# Altium footprint library node.PcbLib: 75 footprints (part 2 of 5)
Each footprint in its own frame and in the unit in brackets; x right, y up, seen from the top. Pads: shape width x height; smd on the part's side, far side on the other; paste and mask are expansions set on the pad; w line width, h text height; cw(c..) or ccw(c..) is an arc to the next point about the centre after c.
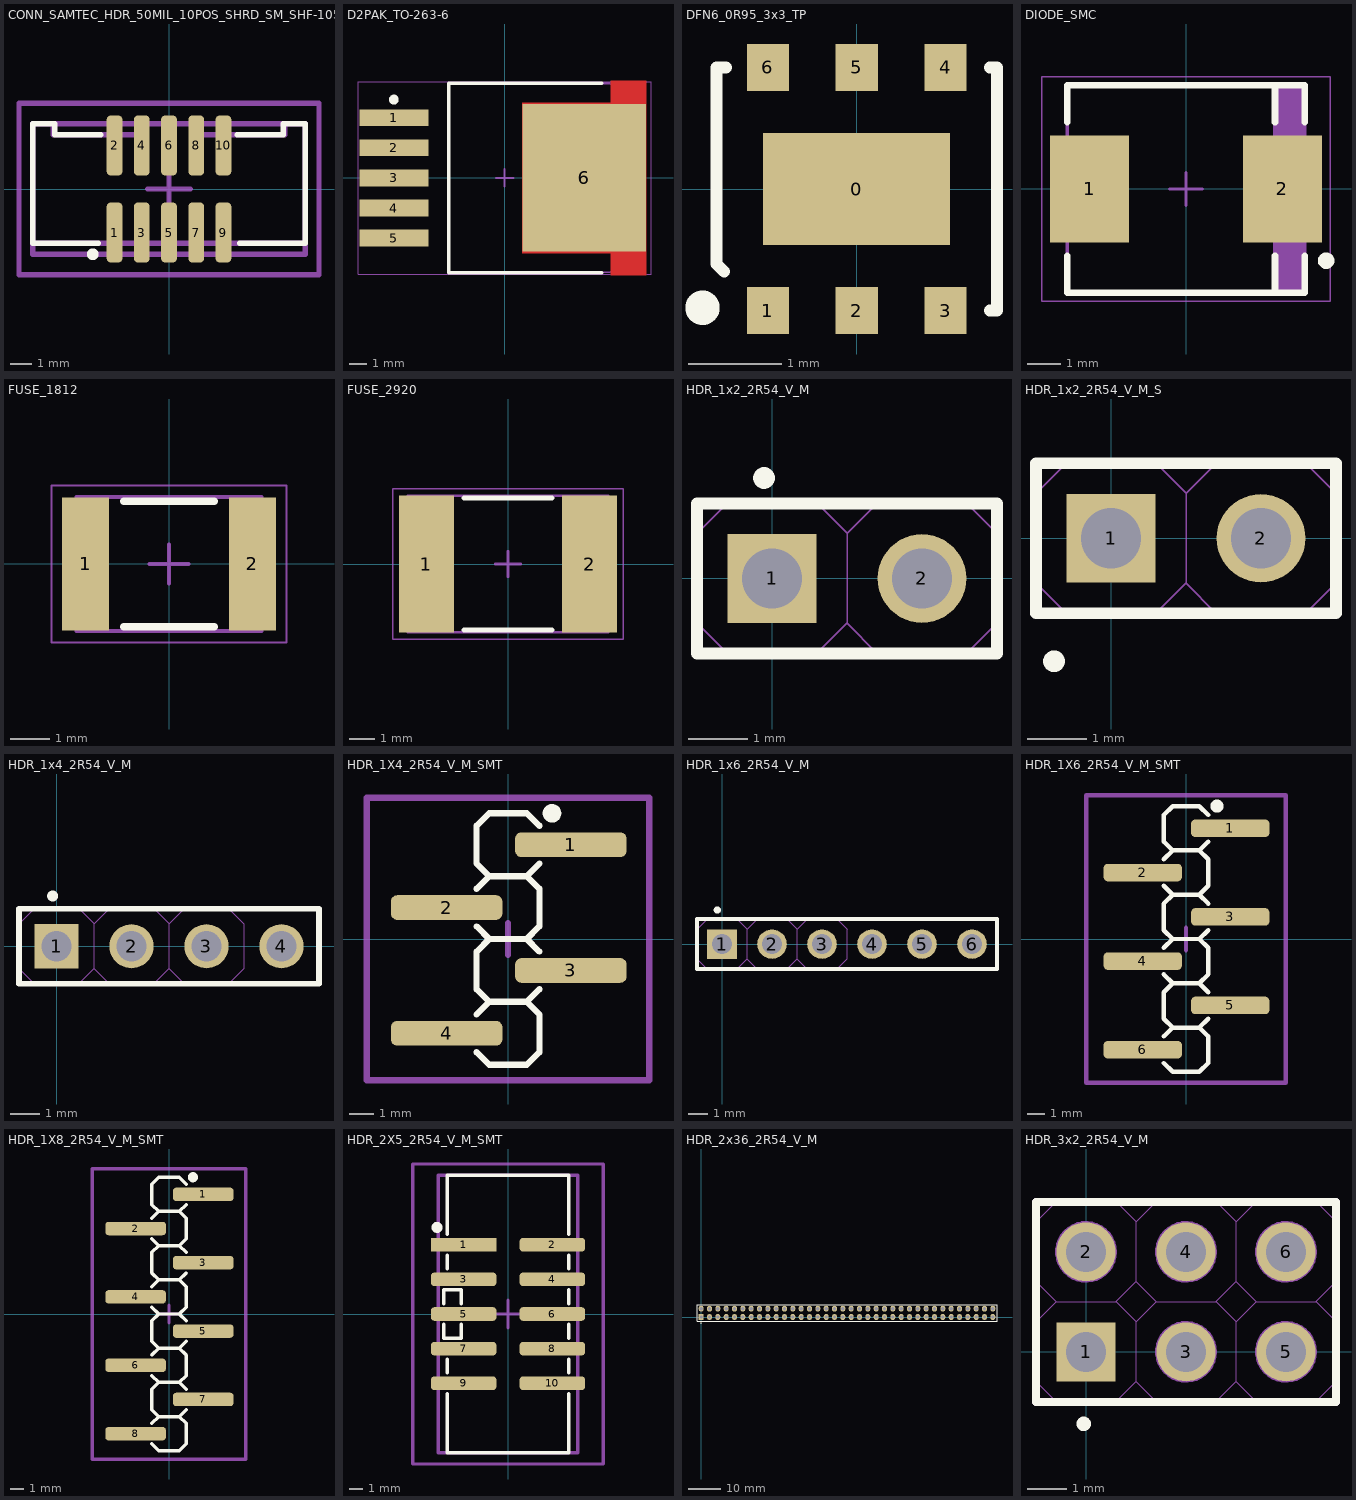
[diagram p1: the footprints below, top view; thin cyan lines are the x and y axes]

## CONN_SAMTEC_HDR_50MIL_10POS_SHRD_SM_SHF-105-01-L-D-SM [mil]
pads (10):
  rrect50% 29x110 smd mask+2: 1(-100,-80) 2(-100,80) 3(-50,-80) 4(-50,80) 5(0,-80) 6(0,80) 7(50,-80) 8(50,80) 9(100,-80) 10(100,80)
Top Overlay:
  circle w13.78: c-140,-120 r3.94
  lines w10: -130,-100 -250,-100 -250,120 -210,120 -210,100 -125,100 ; 125,100 210,100 210,120 250,120 250,-100 130,-100
Mechanical 1:
  lines w10: -250,-100 250,-100 250,120 213,120 213,100 50,100 50,120 -50,120 -50,100 -213,100 -213,120 -250,120 -250,-100
M13 (3D Body):
  lines w10: -249.99,-119.99 250.01,-119.99 250.01,120.01 -249.99,120.01 -249.99,-119.99
M15 (Courtyard):
  lines w10: -39.37,0 39.37,0 ; 0,-39.37 0,39.37 ; -275.59,-157.48 275.59,-157.48 275.59,157.48 -275.59,157.48 -275.59,-157.48
3D body "SHF-105-01-L-D-SM.stp": height 217.87, standoff 2.87, extent -249.99,-119.99 250.01,120.01

## D2PAK_TO-263-6 [mm] "DPAK, 5-Leads, Body 10.16x8.925mm, Pitch 1.7mm, IPC High Density"
height 4.83
pads (6):
  rect 3.9x0.95 smd: 1(-6.25,3.4) 2(-6.25,1.7) 3(-6.25,0) 4(-6.25,-1.7) 5(-6.25,-3.4)
  rect 7x8.33 smd: 6(4.5,0)
Top Layer:
  region: 8,-6.75
  region: 8,5.5 6,5.5 6,4.25 1,4.25 1,-4.25 6,-4.25 6,-5.5 8,-5.5
Top Overlay:
  circle w0.3: c-6.25,4.425 r0.125
  lines w0.2: 5.5,-5.35 -3.15,-5.35 -3.15,5.35 5.5,5.35
M13 (3D Body):
  lines w0.1: -3.15,-5.325 6.5,-5.325 6.5,5.325 -3.15,5.325 -3.15,-5.325
M15 (Courtyard):
  lines w0.05: -8.275,-5.425 8.275,-5.425 8.275,5.425 -8.275,5.425 -8.275,-5.425
  lines w0.1: -0.5,0 0.5,0 ; 0,-0.5 0,0.5
3D body "User Library-P2PAK_A.step": height 4.67, standoff 0.13, extent -7.765,-5.1 7.66,5.1

## DFN6_0R95_3x3_TP [mm] "500 mA low quiescent current and low noise voltage regulator"
height 1
pads (7):
  rect 2x1.2 smd: 0(0,0)
  rect 0.45x0.5 smd: 1(-0.95,-1.3) 2(0,-1.3) 3(0.95,-1.3) 4(0.95,1.3) 5(0,1.3) 6(-0.95,1.3)
Top Overlay:
  circle w0.25: c-1.649,-1.27 r0.059
  lines w0.127: -1.417,-0.883 -1.5,-0.8 -1.5,1.3 -1.397,1.3 ; 1.422,-1.3 1.5,-1.3 1.5,1.3 1.422,1.3
3D body: height 1, standoff 0.05, extent -1.5,-1.5 1.5,1.5

## DIODE_SMC [mm] "Molded Diode, 2-Leads, Body 7.10x6.20mm, IPC Medium Density"
height 2.65
pads (2):
  rect 2.4x3.25 smd: 1(-2.925,0) 2(2.925,0)
Top Overlay:
  circle w0.25: c4.25,-2.175 r0.125
  lines w0.2: -3.6,-2.025 -3.6,-3.15 3.6,-3.15 3.6,-2.025 ; -3.6,2.025 -3.6,3.15 3.6,3.15 3.6,2.025 ; 2.7,-3.15 2.7,-2.025 ; 2.7,2.025 2.7,3.15
M13 (3D Body):
  region: 3.6,3.15 2.632,3.15 2.632,-3.15 3.6,-3.15
  lines w0.1: -3.6,-3.15 3.6,-3.15 3.6,3.15 -3.6,3.15 -3.6,-3.15
M15 (Courtyard):
  lines w0.05: -4.375,-3.4 4.375,-3.4 4.375,3.4 -4.375,3.4 -4.375,-3.4
  lines w0.1: -0.5,0 0.5,0 ; 0,-0.5 0,0.5
3D body "User Library-DO-214AB SMC.step": height 2.31, standoff 0.01, extent -3.975,-2.95 3.975,2.95

## FUSE_1812 [mm] "Chip Resistor, 2-Leads, Body 4.55x3.24mm, IPC Medium Density"
height 0.75
pads (2):
  rect 1.2x3.4 smd: 1(-2.125,0) 2(2.125,0)
Top Overlay:
  lines w0.2: -1.15,-1.6 1.15,-1.6 ; -1.15,1.6 1.15,1.6
M13 (3D Body):
  lines w0.1: -2.365,-1.705 -2.365,1.705 2.365,1.705 2.365,-1.705 -2.365,-1.705
M15 (Courtyard):
  lines w0.05: -3,-2 -3,2 3,2 3,-2 -3,-2
  lines w0.1: -0.5,0 0.5,0 ; 0,-0.5 0,0.5
3D body "User Library-Fuse 1812.step": height 1.03, standoff 0, extent -2.365,-1.74 2.37,1.74

## FUSE_2920 [mm]
height 0.9
pads (2):
  rect 2.2x5.45 smd: 1(-3.25,0) 2(3.25,0)
Top Overlay:
  lines w0.2: -1.75,-2.625 1.75,-2.625 ; -1.75,2.625 1.75,2.625
M13 (3D Body):
  lines w0.1: -3.99,-2.72 -3.99,2.72 3.99,2.72 3.99,-2.72 -3.99,-2.72
M15 (Courtyard):
  lines w0.05: -4.6,-3 -4.6,3 4.6,3 4.6,-3 -4.6,-3
  lines w0.1: -0.5,0 0.5,0 ; 0,-0.5 0,0.5
3D body "User Library-0ZCF0200AF2C.step": height 0.85, standoff 0.05, extent -3.99,-2.72 3.99,2.72

## HDR_1x2_2R54_V_M [mm] "Male Header, Pitch 2.54mm, 4x1 Position, Mated Height 6mm, Tail Length 3mm"
height 6
pads (2):
  rect 1.5x1.5 hole 1.02: 1(0,0)
  round 1.5 hole 1.02: 2(2.54,0)
Top Overlay:
  circle w0.25: c-0.135,1.702 r0.059
  lines w0.2: -1.27,-1.27 -1.27,1.27 3.81,1.27 3.81,-1.27 -1.27,-1.27
M13 (3D Body):
  lines w0.025: 3.81,-0.762 3.302,-1.27 ; 3.81,0.762 3.302,1.27 1.778,1.27 1.27,0.762 ; -1.27,-0.762 -1.27,0.762 ; -1.27,-0.762 -1.27,0.762 ; -1.27,-0.762 -0.762,-1.27 ; -1.27,0.762 -0.762,1.27 0.762,1.27 1.27,0.762 ; -0.762,-1.27 0.762,-1.27 ; -0.762,-1.27 0.762,-1.27 ; 0.762,-1.27 1.27,-0.762 ; 1.27,-0.762 1.27,0.762 ; 1.27,-0.762 1.27,0.762 ; 1.27,-0.762 1.27,0.762 ; 1.27,-0.762 1.27,0.762 ; 1.27,-0.762 1.778,-1.27 ; 1.778,-1.27 3.302,-1.27 ; 1.778,-1.27 3.302,-1.27
3D body: height 2.54, standoff 0, extent -1.27,-1.27 1.27,1.27
3D body: height 9, standoff -10, extent -0.35,-0.349 0.347,0.349
3D body: height 2.54, standoff 0, extent 1.27,-1.27 3.81,1.27
3D body: height 9, standoff -10, extent 2.19,-0.349 2.887,0.349

## HDR_1x2_2R54_V_M_S [mm] "Male Header, Pitch 2.54mm, 4x1 Position, Mated Height 6mm, Tail Length 3mm"
height 6
pads (2):
  rect 1.5x1.5 hole 1.02: 1(0,0)
  round 1.5 hole 1.02: 2(2.54,0)
Top Overlay:
  circle w0.25: c-0.965,-2.083 r0.059
  lines w0.2: -1.27,-1.27 -1.27,1.27 3.81,1.27 3.81,-1.27 -1.27,-1.27
M13 (3D Body):
  lines w0.025: 3.81,-0.762 3.302,-1.27 ; 3.81,0.762 3.302,1.27 1.778,1.27 1.27,0.762 ; -1.27,-0.762 -1.27,0.762 ; -1.27,-0.762 -1.27,0.762 ; -1.27,-0.762 -0.762,-1.27 ; -1.27,0.762 -0.762,1.27 0.762,1.27 1.27,0.762 ; -0.762,-1.27 0.762,-1.27 ; -0.762,-1.27 0.762,-1.27 ; 0.762,-1.27 1.27,-0.762 ; 1.27,-0.762 1.27,0.762 ; 1.27,-0.762 1.27,0.762 ; 1.27,-0.762 1.27,0.762 ; 1.27,-0.762 1.27,0.762 ; 1.27,-0.762 1.778,-1.27 ; 1.778,-1.27 3.302,-1.27 ; 1.778,-1.27 3.302,-1.27
3D body: height 2.54, standoff 0, extent -1.27,-1.27 1.27,1.27
3D body: height 9, standoff -3, extent -0.35,-0.349 0.347,0.349
3D body: height 2.54, standoff 0, extent 1.27,-1.27 3.81,1.27
3D body: height 9, standoff -3, extent 2.19,-0.349 2.887,0.349

## HDR_1x4_2R54_V_M [mm] "Male Header, Pitch 2.54mm, 4x1 Position, Mated Height 6mm, Tail Length 3mm"
height 6
pads (4):
  rect 1.5x1.5 hole 1.02: 1(0,0)
  round 1.5 hole 1.02: 2(2.54,0) 3(5.08,0) 4(7.62,0)
Top Overlay:
  circle w0.25: c-0.135,1.702 r0.059
  lines w0.2: 8.865,1.27 -1.27,1.27 -1.27,-1.27 8.89,-1.27 8.89,1.27
M13 (3D Body):
  lines w0.025: -1.27,-0.762 -1.27,0.762 ; -1.27,-0.762 -1.27,0.762 ; -1.27,-0.762 -0.762,-1.27 ; -1.27,0.762 -0.762,1.27 0.762,1.27 1.27,0.762 ; -0.762,-1.27 0.762,-1.27 ; -0.762,-1.27 0.762,-1.27 ; 0.762,-1.27 1.27,-0.762 ; 1.27,-0.762 1.27,0.762 ; 1.27,-0.762 1.27,0.762 ; 1.27,-0.762 1.27,0.762 ; 1.27,-0.762 1.27,0.762 ; 1.27,-0.762 1.778,-1.27 ; 1.27,0.762 1.778,1.27 3.302,1.27 3.81,0.762 ; 1.778,-1.27 3.302,-1.27 ; 1.778,-1.27 3.302,-1.27 ; 3.302,-1.27 3.81,-0.762 ; 3.81,-0.762 3.81,0.762 ; 3.81,-0.762 3.81,0.762 ; 3.81,-0.762 3.81,0.762 ; 3.81,-0.762 3.81,0.762 ; 3.81,-0.762 4.318,-1.27 ; 3.81,0.762 4.318,1.27 5.842,1.27 6.35,0.762 ; 4.318,-1.27 5.842,-1.27 ; 4.318,-1.27 5.842,-1.27 ; 5.842,-1.27 6.35,-0.762 ; 6.35,-0.762 6.35,0.762 ; 6.35,-0.762 6.35,0.762
3D body: height 2.54, standoff 0, extent -1.27,-1.27 1.27,1.27
3D body: height 9, standoff -2.54, extent -0.35,-0.349 0.347,0.349
3D body: height 2.54, standoff 0, extent 1.27,-1.27 3.81,1.27
3D body: height 9, standoff -2.54, extent 2.19,-0.349 2.887,0.349
3D body: height 2.54, standoff 0, extent 3.81,-1.27 6.35,1.27
3D body: height 9, standoff -2.54, extent 4.73,-0.349 5.427,0.349
3D body: height 9, standoff -2.54, extent 7.27,-0.349 7.967,0.349
3D body: height 2.54, standoff 0, extent 6.35,-1.27 8.89,1.27

## HDR_1X4_2R54_V_M_SMT [mm]
pads (4):
  rrect50% 4.506x1 smd: 1(2.54,3.81) 2(-2.48,1.27) 3(2.54,-1.27) 4(-2.48,-3.81)
Top Overlay:
  circle w0.381: c1.778,5.08 r0.185
  lines w0.254: -1.27,-4.572 -0.762,-5.08 0.762,-5.08 1.27,-4.572 1.27,-3.048 0.762,-2.54 ; -1.27,-3.048 -0.762,-2.54 ; -1.27,0.508 -0.762,0 ; -1.27,2.032 -0.762,2.54 ; 1.27,-2.032 0.762,-2.54 ; 1.27,-0.508 0.762,0 ; 1.27,3.048 0.762,2.54 ; 1.27,4.572 0.762,5.08 -0.762,5.08 -1.27,4.572 -1.27,3.048 -0.762,2.54 ; -0.762,-2.54 -1.27,-2.032 -1.27,-0.508 -0.762,0 ; -0.762,-2.54 0.762,-2.54 ; -0.762,0 0.762,0 ; -0.762,2.54 0.762,2.54 ; 0.762,0 1.27,0.508 1.27,2.032 0.762,2.54
M15 (Courtyard):
  lines w0.254: -0.635,0 0.635,0 ; 0,-0.635 0,0.635 ; -5.715,-5.715 5.715,-5.715 5.715,5.715 -5.715,5.715 -5.715,-5.715
3D body "4pos_hdr_smt_standardbend.STEP": height 9.92, standoff 0.02, extent -3.75,-5.095 3.75,5.065

## HDR_1x6_2R54_V_M [mm] "Male Header, Pitch 2.54mm, 6x1 Position, Mated Height 6mm, Tail Length 3mm"
height 6
pads (6):
  rect 1.5x1.5 hole 1.02: 1(0,0)
  round 1.5 hole 1.02: 2(2.54,0) 3(5.08,0) 4(7.62,0) 5(10.16,0) 6(12.7,0)
Top Overlay:
  circle w0.25: c-0.236,1.727 r0.059
  lines w0.2: 13.945,-1.27 -1.27,-1.27 -1.27,1.27 13.945,1.27 ; 13.97,-1.27 13.97,1.27
M13 (3D Body):
  lines w0.025: -1.27,-0.762 -0.762,-1.27 ; -1.27,-0.762 -1.27,0.762 ; -1.27,-0.762 -1.27,0.762 ; -1.27,0.762 -0.762,1.27 0.762,1.27 1.27,0.762 ; -0.762,-1.27 0.762,-1.27 ; -0.762,-1.27 0.762,-1.27 ; 0.762,-1.27 1.27,-0.762 ; 1.27,-0.762 1.778,-1.27 ; 1.27,-0.762 1.27,0.762 ; 1.27,-0.762 1.27,0.762 ; 1.27,-0.762 1.27,0.762 ; 1.27,-0.762 1.27,0.762 ; 1.27,0.762 1.778,1.27 3.302,1.27 3.81,0.762 ; 1.778,-1.27 3.302,-1.27 ; 1.778,-1.27 3.302,-1.27 ; 3.302,-1.27 3.81,-0.762 ; 3.81,-0.762 4.318,-1.27 ; 3.81,-0.762 3.81,0.762 ; 3.81,-0.762 3.81,0.762 ; 3.81,-0.762 3.81,0.762 ; 3.81,-0.762 3.81,0.762 ; 3.81,0.762 4.318,1.27 5.842,1.27 6.35,0.762 ; 4.318,-1.27 5.842,-1.27 ; 4.318,-1.27 5.842,-1.27 ; 5.842,-1.27 6.35,-0.762 ; 6.35,-0.762 6.35,0.762 ; 6.35,-0.762 6.35,0.762
3D body: height 2.54, standoff 0, extent 11.43,-1.27 13.97,1.27
3D body: height 9, standoff -2.54, extent 12.35,-0.349 13.047,0.349
3D body: height 2.54, standoff 0, extent 8.89,-1.27 11.43,1.27
3D body: height 9, standoff -2.54, extent 9.81,-0.349 10.507,0.349
3D body: height 2.54, standoff 0, extent 6.35,-1.27 8.89,1.27
3D body: height 9, standoff -2.54, extent 7.27,-0.349 7.967,0.349
3D body: height 9, standoff -2.54, extent 4.73,-0.349 5.427,0.349
3D body: height 2.54, standoff 0, extent 3.81,-1.27 6.35,1.27
3D body: height 9, standoff -2.54, extent 2.19,-0.349 2.887,0.349
3D body: height 2.54, standoff 0, extent 1.27,-1.27 3.81,1.27
3D body: height 9, standoff -2.54, extent -0.35,-0.349 0.347,0.349
3D body: height 2.54, standoff 0, extent -1.27,-1.27 1.27,1.27

## HDR_1X6_2R54_V_M_SMT [mm]
pads (6):
  rrect50% 4.506x1 smd: 1(2.54,6.35) 2(-2.48,3.81) 3(2.54,1.27) 4(-2.48,-1.27) 5(2.54,-3.81) 6(-2.48,-6.35)
Top Overlay:
  circle w0.381: c1.778,7.62 r0.185
  lines w0.254: -1.27,-7.112 -0.762,-7.62 0.762,-7.62 1.27,-7.112 1.27,-5.588 0.762,-5.08 ; -1.27,-5.588 -0.762,-5.08 ; -1.27,-2.032 -0.762,-2.54 ; -1.27,-0.508 -0.762,0 ; -1.27,3.048 -0.762,2.54 ; -1.27,4.572 -0.762,5.08 ; 1.27,-4.572 0.762,-5.08 ; 1.27,-3.048 0.762,-2.54 ; 1.27,0.508 0.762,0 ; 1.27,2.032 0.762,2.54 ; 1.27,5.588 0.762,5.08 ; 1.27,7.112 0.762,7.62 -0.762,7.62 -1.27,7.112 -1.27,5.588 -0.762,5.08 ; -0.762,-5.08 -1.27,-4.572 -1.27,-3.048 -0.762,-2.54 ; -0.762,-5.08 0.762,-5.08 ; -0.762,-2.54 0.762,-2.54 ; -0.762,0 -1.27,0.508 -1.27,2.032 -0.762,2.54 ; -0.762,0 0.762,0 ; -0.762,2.54 0.762,2.54 ; -0.762,5.08 0.762,5.08 ; 0.762,-2.54 1.27,-2.032 1.27,-0.508 0.762,0 ; 0.762,2.54 1.27,3.048 1.27,4.572 0.762,5.08
M15 (Courtyard):
  lines w0.254: -0.635,0 0.635,0 ; 0,-0.635 0,0.635 ; -5.715,-8.255 5.715,-8.255 5.715,8.255 -5.715,8.255 -5.715,-8.255
3D body "6pos_hdr_smt_standardbend.STEP": height 9.93, standoff 0.03, extent -3.759,-7.62 3.741,7.62

## HDR_1X8_2R54_V_M_SMT [mm]
pads (8):
  rrect50% 4.506x1 smd: 1(2.54,8.89) 2(-2.48,6.35) 3(2.54,3.81) 4(-2.48,1.27) 5(2.54,-1.27) 6(-2.48,-3.81) 7(2.54,-6.35) 8(-2.48,-8.89)
Top Overlay:
  circle w0.381: c1.778,10.16 r0.185
  lines w0.254: -1.27,-9.652 -0.762,-10.16 0.762,-10.16 1.27,-9.652 1.27,-8.128 0.762,-7.62 ; -1.27,-8.128 -0.762,-7.62 ; -1.27,-4.572 -0.762,-5.08 ; -1.27,-3.048 -0.762,-2.54 ; -1.27,0.508 -0.762,0 ; -1.27,2.032 -0.762,2.54 ; -1.27,5.588 -0.762,5.08 ; -1.27,7.112 -0.762,7.62 ; 1.27,-7.112 0.762,-7.62 ; 1.27,-5.588 0.762,-5.08 ; 1.27,-2.032 0.762,-2.54 ; 1.27,-0.508 0.762,0 ; 1.27,3.048 0.762,2.54 ; 1.27,4.572 0.762,5.08 ; 1.27,8.128 0.762,7.62 ; 1.27,9.652 0.762,10.16 -0.762,10.16 -1.27,9.652 -1.27,8.128 -0.762,7.62 ; -0.762,-7.62 0.762,-7.62 ; -0.762,-7.62 -1.27,-7.112 -1.27,-5.588 -0.762,-5.08 ; -0.762,-5.08 0.762,-5.08 ; -0.762,-5.08 0.762,-5.08 ; -0.762,-2.54 -1.27,-2.032 -1.27,-0.508 -0.762,0 ; -0.762,-2.54 0.762,-2.54 ; -0.762,0 0.762,0 ; -0.762,2.54 -1.27,3.048 -1.27,4.572 -0.762,5.08 ; -0.762,2.54 0.762,2.54 ; -0.762,5.08 0.762,5.08 ; -0.762,7.62 0.762,7.62 ; 0.762,-5.08 1.27,-4.572 1.27,-3.048 0.762,-2.54 ; 0.762,0 1.27,0.508 1.27,2.032 0.762,2.54 ; 0.762,5.08 1.27,5.588 1.27,7.112 0.762,7.62
M15 (Courtyard):
  lines w0.254: -0.635,0 0.635,0 ; 0,-0.635 0,0.635 ; -5.715,-10.795 5.715,-10.795 5.715,10.795 -5.715,10.795 -5.715,-10.795
3D body "8pos_hdr_smt_standardbend.STEP": height 9.93, standoff 0.03, extent -3.69,-10.16 3.81,10.16

## HDR_2X5_2R54_V_M_SMT [mm]
pads (10):
  rect 4.8x1 smd: 1(-3.25,5.08)
  rrect50% 4.8x1 smd: 2(3.25,5.08) 3(-3.25,2.54) 4(3.25,2.54) 5(-3.25,0) 6(3.25,0) 7(-3.25,-2.54) 8(3.25,-2.54) 9(-3.25,-5.08) 10(3.25,-5.08)
Top Overlay:
  circle w0.4: c-5.207,6.35 r0.2
  region: -4.445,0.762
  lines w0.254: -4.699,-0.762 -4.699,-1.778 -3.429,-1.778 -3.429,-0.762 ; -4.699,0.762 -4.699,1.778 -3.429,1.778 -3.429,0.762 ; -4.445,-5.842 -4.445,-10.16 4.445,-10.16 4.445,-5.842 ; -4.445,-4.318 -4.445,-3.302 ; -4.445,3.302 -4.445,4.318 ; -4.445,5.842 -4.445,10.16 4.445,10.16 4.445,5.842 ; 4.445,-4.318 4.445,-3.302 ; 4.445,-1.778 4.445,-0.762 ; 4.445,0.762 4.445,1.778 ; 4.445,3.302 4.445,4.318
M13 (3D Body):
  lines w0.254: -5.1,-10.16 -5.1,10.16 5.1,10.16 5.1,-10.16 -5.1,-10.16
M15 (Courtyard):
  lines w0.254: -1,0 1,0 ; 0,-1 0,1 ; -7,-11 7,-11 7,11 -7,11 -7,-11
3D body "hdr_2x5_smt_3020-10-0300-xx.STEP": height 9.9, standoff 0.1, extent -5.1,-10.16 5.1,10.16

## HDR_2x36_2R54_V_M [mm] "Male Header, Pitch 2.54mm, 36x2 Position, Mated Height 6mm, Tail Length 3mm"
height 6
pads (72):
  rect 1.5x1.8 hole 1.02: 1(0,0)
  oval 1.5x1.8 hole 1.02: 2(0,2.54) 3(2.54,0) 4(2.54,2.54) 5(5.08,0) 6(5.08,2.54) 7(7.62,0) 8(7.62,2.54) 9(10.16,0) 10(10.16,2.54) 11(12.7,0) 12(12.7,2.54) 13(15.24,0) 14(15.24,2.54) 15(17.78,0) 16(17.78,2.54) 17(20.32,0) 18(20.32,2.54) 19(22.86,0) 20(22.86,2.54) 21(25.4,0) 22(25.4,2.54) 23(27.94,0) 24(27.94,2.54) 25(30.48,0) 26(30.48,2.54) 27(33.02,0) 28(33.02,2.54) 29(35.56,0) 30(35.56,2.54) 31(38.1,0) 32(38.1,2.54) 33(40.64,0) 34(40.64,2.54) 35(43.18,0) 36(43.18,2.54) 37(45.72,0) 38(45.72,2.54) 39(48.26,0) 40(48.26,2.54) 41(50.8,0) 42(50.8,2.54) 43(53.34,0) 44(53.34,2.54) 45(55.88,0) 46(55.88,2.54) 47(58.42,0) 48(58.42,2.54) 49(60.96,0) 50(60.96,2.54) 51(63.5,0) 52(63.5,2.54) 53(66.04,0) 54(66.04,2.54) 55(68.58,0) 56(68.58,2.54) 57(71.12,0) 58(71.12,2.54) 59(73.66,0) 60(73.66,2.54) 61(76.2,0) 62(76.2,2.54) 63(78.74,0) 64(78.74,2.54) 65(81.28,0) 66(81.28,2.54) 67(83.82,0) 68(83.82,2.54) 69(86.36,0) 70(86.36,2.54) 71(88.9,0) 72(88.9,2.54)
Top Overlay:
  circle w0.25: c-0.059,-1.905 r0.059
  lines w0.127: -1.27,-1.27 -1.27,3.81 90.17,3.81 90.17,-1.27 -1.27,-1.27
3D body: height 2.54, standoff 0, extent -1.27,1.27 1.27,3.81
3D body: height 9, standoff -2.54, extent -0.35,2.191 0.347,2.889
3D body: height 2.54, standoff 0, extent 1.27,1.27 3.81,3.81
3D body: height 9, standoff -2.54, extent 2.19,2.191 2.887,2.889
3D body: height 2.54, standoff 0, extent 3.81,1.27 6.35,3.81
3D body: height 9, standoff -2.54, extent 4.73,2.191 5.427,2.889
3D body: height 9, standoff -2.54, extent 7.27,2.191 7.967,2.889
3D body: height 2.54, standoff 0, extent 6.35,1.27 8.89,3.81
3D body: height 9, standoff -2.54, extent 9.81,2.191 10.507,2.889
3D body: height 2.54, standoff 0, extent 8.89,1.27 11.43,3.81
3D body: height 9, standoff -2.54, extent 12.35,2.191 13.047,2.889
3D body: height 2.54, standoff 0, extent 11.43,1.27 13.97,3.81
3D body: height 2.54, standoff 0, extent 24.13,1.27 26.67,3.81
3D body: height 9, standoff -2.54, extent 25.05,2.191 25.747,2.889
3D body: height 2.54, standoff 0, extent 21.59,1.27 24.13,3.81
3D body: height 9, standoff -2.54, extent 22.51,2.191 23.207,2.889
3D body: height 2.54, standoff 0, extent 19.05,1.27 21.59,3.81
3D body: height 9, standoff -2.54, extent 19.97,2.191 20.667,2.889
3D body: height 9, standoff -2.54, extent 17.43,2.191 18.127,2.889
3D body: height 2.54, standoff 0, extent 16.51,1.27 19.05,3.81
3D body: height 9, standoff -2.54, extent 14.89,2.191 15.587,2.889
3D body: height 2.54, standoff 0, extent 13.97,1.27 16.51,3.81
3D body: height 2.54, standoff 0, extent 36.83,1.27 39.37,3.81
3D body: height 9, standoff -2.54, extent 37.75,2.191 38.447,2.889
3D body: height 2.54, standoff 0, extent 34.29,1.27 36.83,3.81
3D body: height 9, standoff -2.54, extent 35.21,2.191 35.907,2.889
3D body: height 2.54, standoff 0, extent 31.75,1.27 34.29,3.81
3D body: height 9, standoff -2.54, extent 32.67,2.191 33.367,2.889
3D body: height 9, standoff -2.54, extent 30.13,2.191 30.827,2.889
3D body: height 2.54, standoff 0, extent 29.21,1.27 31.75,3.81
3D body: height 9, standoff -2.54, extent 27.59,2.191 28.287,2.889
3D body: height 2.54, standoff 0, extent 26.67,1.27 29.21,3.81
3D body: height 2.54, standoff 0, extent 49.53,1.27 52.07,3.81
3D body: height 9, standoff -2.54, extent 50.45,2.191 51.147,2.889
3D body: height 2.54, standoff 0, extent 46.99,1.27 49.53,3.81
3D body: height 9, standoff -2.54, extent 47.91,2.191 48.607,2.889
3D body: height 2.54, standoff 0, extent 44.45,1.27 46.99,3.81
3D body: height 9, standoff -2.54, extent 45.37,2.191 46.067,2.889
3D body: height 9, standoff -2.54, extent 42.83,2.191 43.527,2.889
3D body: height 2.54, standoff 0, extent 41.91,1.27 44.45,3.81
3D body: height 9, standoff -2.54, extent 40.29,2.191 40.987,2.889
3D body: height 2.54, standoff 0, extent 39.37,1.27 41.91,3.81
3D body: height 2.54, standoff 0, extent 59.69,1.27 62.23,3.81
3D body: height 9, standoff -2.54, extent 60.61,2.191 61.307,2.889
3D body: height 2.54, standoff 0, extent 57.15,1.27 59.69,3.81
3D body: height 9, standoff -2.54, extent 58.07,2.191 58.767,2.889
3D body: height 9, standoff -2.54, extent 55.53,2.191 56.227,2.889
3D body: height 2.54, standoff 0, extent 54.61,1.27 57.15,3.81
3D body: height 9, standoff -2.54, extent 52.99,2.191 53.687,2.889
3D body: height 2.54, standoff 0, extent 52.07,1.27 54.61,3.81
3D body: height 2.54, standoff 0, extent 77.47,1.27 80.01,3.81
3D body: height 9, standoff -2.54, extent 78.39,2.191 79.087,2.889
3D body: height 2.54, standoff 0, extent 80.01,1.27 82.55,3.81
3D body: height 9, standoff -2.54, extent 80.93,2.191 81.627,2.889
3D body: height 9, standoff -2.54, extent 83.47,2.191 84.167,2.889
3D body: height 2.54, standoff 0, extent 82.55,1.27 85.09,3.81
3D body: height 9, standoff -2.54, extent 86.01,2.191 86.707,2.889
3D body: height 2.54, standoff 0, extent 85.09,1.27 87.63,3.81
3D body: height 2.54, standoff 0, extent 64.77,1.27 67.31,3.81
3D body: height 9, standoff -2.54, extent 65.69,2.191 66.387,2.889
3D body: height 2.54, standoff 0, extent 67.31,1.27 69.85,3.81
3D body: height 9, standoff -2.54, extent 68.23,2.191 68.927,2.889
3D body: height 9, standoff -2.54, extent 70.77,2.191 71.467,2.889
3D body: height 2.54, standoff 0, extent 69.85,1.27 72.39,3.81
3D body: height 9, standoff -2.54, extent 73.31,2.191 74.007,2.889
3D body: height 2.54, standoff 0, extent 72.39,1.27 74.93,3.81
3D body: height 9, standoff -2.54, extent 75.85,2.191 76.547,2.889
3D body: height 2.54, standoff 0, extent 74.93,1.27 77.47,3.81
3D body: height 9, standoff -2.54, extent 63.15,2.191 63.847,2.889
3D body: height 2.54, standoff 0, extent 62.23,1.27 64.77,3.81
3D body: height 9, standoff -2.54, extent -0.349,-0.347 0.349,0.35
3D body: height 2.54, standoff 0, extent -1.27,-1.27 1.27,1.27
3D body: height 2.54, standoff 0, extent 62.23,-1.27 64.77,1.27
3D body: height 9, standoff -2.54, extent 63.15,-0.349 63.847,0.349
3D body: height 2.54, standoff 0, extent 74.93,-1.27 77.47,1.27
3D body: height 9, standoff -2.54, extent 75.85,-0.349 76.547,0.349
3D body: height 2.54, standoff 0, extent 72.39,-1.27 74.93,1.27
3D body: height 9, standoff -2.54, extent 73.31,-0.349 74.007,0.349
3D body: height 2.54, standoff 0, extent 69.85,-1.27 72.39,1.27
3D body: height 9, standoff -2.54, extent 70.77,-0.349 71.467,0.349
3D body: height 9, standoff -2.54, extent 68.23,-0.349 68.927,0.349
3D body: height 2.54, standoff 0, extent 67.31,-1.27 69.85,1.27
3D body: height 9, standoff -2.54, extent 65.69,-0.349 66.387,0.349
3D body: height 2.54, standoff 0, extent 64.77,-1.27 67.31,1.27
3D body: height 2.54, standoff 0, extent 85.09,-1.27 87.63,1.27
3D body: height 9, standoff -2.54, extent 86.01,-0.349 86.707,0.349
3D body: height 2.54, standoff 0, extent 82.55,-1.27 85.09,1.27
3D body: height 9, standoff -2.54, extent 83.47,-0.349 84.167,0.349
3D body: height 9, standoff -2.54, extent 80.93,-0.349 81.627,0.349
3D body: height 2.54, standoff 0, extent 80.01,-1.27 82.55,1.27
3D body: height 9, standoff -2.54, extent 78.39,-0.349 79.087,0.349
3D body: height 2.54, standoff 0, extent 77.47,-1.27 80.01,1.27
3D body: height 2.54, standoff 0, extent 52.07,-1.27 54.61,1.27
3D body: height 9, standoff -2.54, extent 52.99,-0.349 53.687,0.349
3D body: height 2.54, standoff 0, extent 54.61,-1.27 57.15,1.27
3D body: height 9, standoff -2.54, extent 55.53,-0.349 56.227,0.349
3D body: height 9, standoff -2.54, extent 58.07,-0.349 58.767,0.349
3D body: height 2.54, standoff 0, extent 57.15,-1.27 59.69,1.27
3D body: height 9, standoff -2.54, extent 60.61,-0.349 61.307,0.349
3D body: height 2.54, standoff 0, extent 59.69,-1.27 62.23,1.27
3D body: height 2.54, standoff 0, extent 39.37,-1.27 41.91,1.27
3D body: height 9, standoff -2.54, extent 40.29,-0.349 40.987,0.349
3D body: height 2.54, standoff 0, extent 41.91,-1.27 44.45,1.27
3D body: height 9, standoff -2.54, extent 42.83,-0.349 43.527,0.349
3D body: height 9, standoff -2.54, extent 45.37,-0.349 46.067,0.349
3D body: height 2.54, standoff 0, extent 44.45,-1.27 46.99,1.27
3D body: height 9, standoff -2.54, extent 47.91,-0.349 48.607,0.349
3D body: height 2.54, standoff 0, extent 46.99,-1.27 49.53,1.27
3D body: height 9, standoff -2.54, extent 50.45,-0.349 51.147,0.349
3D body: height 2.54, standoff 0, extent 49.53,-1.27 52.07,1.27
3D body: height 2.54, standoff 0, extent 26.67,-1.27 29.21,1.27
3D body: height 9, standoff -2.54, extent 27.59,-0.349 28.287,0.349
3D body: height 2.54, standoff 0, extent 29.21,-1.27 31.75,1.27
3D body: height 9, standoff -2.54, extent 30.13,-0.349 30.827,0.349
3D body: height 9, standoff -2.54, extent 32.67,-0.349 33.367,0.349
3D body: height 2.54, standoff 0, extent 31.75,-1.27 34.29,1.27
3D body: height 9, standoff -2.54, extent 35.21,-0.349 35.907,0.349
3D body: height 2.54, standoff 0, extent 34.29,-1.27 36.83,1.27
3D body: height 9, standoff -2.54, extent 37.75,-0.349 38.447,0.349
3D body: height 2.54, standoff 0, extent 36.83,-1.27 39.37,1.27
3D body: height 2.54, standoff 0, extent 13.97,-1.27 16.51,1.27
3D body: height 9, standoff -2.54, extent 14.89,-0.349 15.587,0.349
3D body: height 2.54, standoff 0, extent 16.51,-1.27 19.05,1.27
3D body: height 9, standoff -2.54, extent 17.43,-0.349 18.127,0.349
3D body: height 9, standoff -2.54, extent 19.97,-0.349 20.667,0.349
3D body: height 2.54, standoff 0, extent 19.05,-1.27 21.59,1.27
3D body: height 9, standoff -2.54, extent 22.51,-0.349 23.207,0.349
3D body: height 2.54, standoff 0, extent 21.59,-1.27 24.13,1.27
3D body: height 9, standoff -2.54, extent 25.05,-0.349 25.747,0.349
3D body: height 2.54, standoff 0, extent 24.13,-1.27 26.67,1.27
3D body: height 2.54, standoff 0, extent 11.43,-1.27 13.97,1.27
3D body: height 9, standoff -2.54, extent 12.35,-0.349 13.047,0.349
3D body: height 2.54, standoff 0, extent 8.89,-1.27 11.43,1.27
3D body: height 9, standoff -2.54, extent 9.81,-0.349 10.507,0.349
3D body: height 2.54, standoff 0, extent 6.35,-1.27 8.89,1.27
3D body: height 9, standoff -2.54, extent 7.27,-0.349 7.967,0.349
3D body: height 9, standoff -2.54, extent 4.73,-0.349 5.427,0.349
3D body: height 2.54, standoff 0, extent 3.81,-1.27 6.35,1.27
3D body: height 9, standoff -2.54, extent 2.19,-0.349 2.887,0.349
3D body: height 2.54, standoff 0, extent 1.27,-1.27 3.81,1.27
3D body: height 9, standoff -2.54, extent 88.55,-0.349 89.247,0.349
3D body: height 2.54, standoff 0, extent 87.63,-1.27 90.17,1.27
3D body: height 2.54, standoff 0, extent 87.63,1.27 90.17,3.81
3D body: height 9, standoff -2.54, extent 88.55,2.191 89.247,2.889

## HDR_3x2_2R54_V_M [mm] "Male Header, Pitch 2.54mm, 2x3 Position, Mated Height 6mm, Tail Length 3mm"
height 6
pads (6):
  rect 1.5x1.5 hole 1.02: 1(0,0)
  round 1.5 hole 1.02: 2(0,2.54) 3(2.54,0) 4(2.54,2.54) 5(5.08,0) 6(5.08,2.54)
Top Overlay:
  circle w0.25: c-0.059,-1.829 r0.059
  lines w0.2: -1.27,-1.27 6.35,-1.27 6.35,3.81 -1.27,3.81 -1.27,-1.27
Mechanical 7:
  circle w0.2: c0,2.54 r0.684
  circle w0.2: c2.54,2.54 r0.684
  circle w0.2: c5.08,2.54 r0.684
  circle w0.2: c5.08,0 r0.684
  circle w0.2: c2.54,0 r0.684
  lines w0.2: -1.27,-1.27 6.35,-1.27 6.35,3.81 -1.27,3.81 -1.27,-1.27 ; -0.635,-0.635 0.635,-0.635 0.635,0.635 -0.635,0.635 -0.635,-0.635
M13 (3D Body):
  lines w0.025: 6.35,-0.762 5.842,-1.27 ; 6.35,0.762 5.842,1.27 ; 6.35,1.778 5.842,1.27 ; 6.35,3.302 5.842,3.81 4.318,3.81 3.81,3.302 ; -1.27,-0.762 -0.762,-1.27 ; -1.27,-0.762 -1.27,0.762 ; -1.27,-0.762 -1.27,0.762 ; -1.27,0.762 -0.762,1.27 ; -1.27,1.778 -1.27,3.302 ; -1.27,1.778 -1.27,3.302 ; -1.27,1.778 -0.762,1.27 ; -1.27,3.302 -0.762,3.81 0.762,3.81 1.27,3.302 ; -0.762,-1.27 0.762,-1.27 ; -0.762,-1.27 0.762,-1.27 ; -0.762,1.27 0.762,1.27 ; -0.762,1.27 0.762,1.27 ; -0.762,1.27 0.762,1.27 ; 0.762,-1.27 1.27,-0.762 ; 0.762,1.27 1.27,1.778 ; 0.762,1.27 1.27,0.762 ; 1.27,-0.762 1.778,-1.27 ; 1.27,-0.762 1.27,0.762 ; 1.27,-0.762 1.27,0.762 ; 1.27,-0.762 1.27,0.762 ; 1.27,-0.762 1.27,0.762 ; 1.27,0.762 1.778,1.27 ; 1.27,1.778 1.27,3.302 ; 1.27,1.778 1.27,3.302 ; 1.27,1.778 1.27,3.302 ; 1.27,1.778 1.27,3.302 ; 1.27,1.778 1.778,1.27 ; 1.27,3.302 1.778,3.81 3.302,3.81 3.81,3.302 ; 1.778,-1.27 3.302,-1.27 ; 1.778,-1.27 3.302,-1.27 ; 1.778,1.27 3.302,1.27 ; 1.778,1.27 3.302,1.27 ; 1.778,1.27 3.302,1.27 ; 3.302,-1.27 3.81,-0.762 ; 3.302,1.27 3.81,1.778 ; 3.302,1.27 3.81,0.762 ; 3.81,-0.762 4.318,-1.27 ; 3.81,-0.762 3.81,0.762 ; 3.81,-0.762 3.81,0.762 ; 3.81,-0.762 3.81,0.762 ; 3.81,-0.762 3.81,0.762 ; 3.81,0.762 4.318,1.27 ; 3.81,1.778 3.81,3.302 ; 3.81,1.778 3.81,3.302 ; 3.81,1.778 3.81,3.302 ; 3.81,1.778 3.81,3.302 ; 3.81,1.778 4.318,1.27 ; 4.318,-1.27 5.842,-1.27 ; 4.318,-1.27 5.842,-1.27 ; 4.318,1.27 5.842,1.27 ; 4.318,1.27 5.842,1.27 ; 4.318,1.27 5.842,1.27
3D body: height 9, standoff -2.54, extent 4.731,2.191 5.429,2.889
3D body: height 9, standoff -2.54, extent 2.191,2.191 2.889,2.889
3D body: height 9, standoff -2.54, extent -0.349,2.191 0.349,2.889
3D body: height 9, standoff -2.54, extent 4.731,-0.349 5.429,0.349
3D body: height 9, standoff -2.54, extent 2.191,-0.349 2.889,0.349
3D body: height 9, standoff -2.54, extent -0.349,-0.349 0.349,0.349
3D body: height 2.54, standoff 0, extent -1.27,1.27 1.27,3.81
3D body: height 2.54, standoff 0, extent 1.27,1.27 3.81,3.81
3D body: height 2.54, standoff 0, extent 3.81,1.27 6.35,3.81
3D body: height 2.54, standoff 0, extent 3.81,-1.27 6.35,1.27
3D body: height 2.54, standoff 0, extent 1.27,-1.27 3.81,1.27
3D body: height 2.54, standoff 0, extent -1.27,-1.27 1.27,1.27